# EAGLE library part 79109-34 (library untitled)
RECEPTACAL
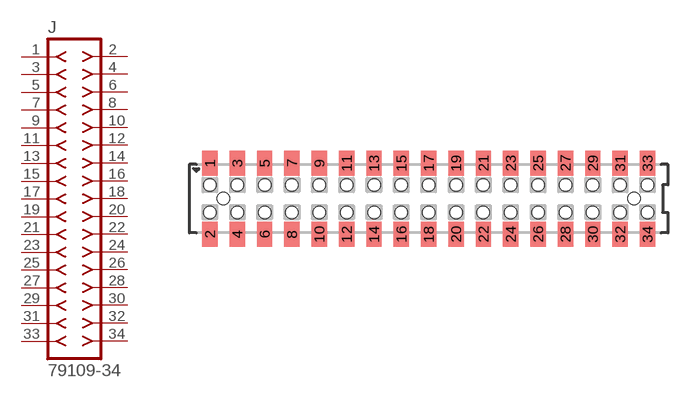
[diagram p174: symbol with the pads of 79109-34; footprint 79109-34]

Designator prefix J

## 79109-34  [79109-34]
1  1  pas
2  2  pas
3  3  pas
4  4  pas
5  5  pas
6  6  pas
7  7  pas
8  8  pas
9  9  pas
10  10  pas
11  11  pas
12  12  pas
13  13  pas
14  14  pas
15  15  pas
16  16  pas
17  17  pas
18  18  pas
19  19  pas
20  20  pas
21  21  pas
22  22  pas
23  23  pas
24  24  pas
25  25  pas
26  26  pas
27  27  pas
28  28  pas
29  29  pas
30  30  pas
31  31  pas
32  32  pas
33  33  pas
34  34  pas

## Footprint 79109-34 (pad centres in mm)
RECEPTACAL SMD Dual Row, Vertical, Pass-Thru
smd 1.12 x 1.83: 1 -16,2.6; 2 -16,-2.6; 3 -14,2.6; 4 -14,-2.6; 5 -12,2.6; 6 -12,-2.6; 7 -10,2.6; 8 -10,-2.6; 9 -8,2.6; 10 -8,-2.6; 11 -6,2.6; 12 -6,-2.6; 13 -4,2.6; 14 -4,-2.6; 15 -2,2.6; 16 -2,-2.6; 17 0,2.6; 18 0,-2.6; 19 2,2.6; 20 2,-2.6; 21 4,2.6; 22 4,-2.6; 23 6,2.6; 24 6,-2.6; 25 8,2.6; 26 8,-2.6; 27 10,2.6; 28 10,-2.6; 29 12,2.6; 30 12,-2.6; 31 14,2.6; 32 14,-2.6; 33 16,2.6; 34 16,-2.6
hole 0.914 at -15,0
hole 0.914 at -16,1
hole 0.914 at -16,-1
hole 0.914 at -14,-1
hole 0.914 at -14,1
hole 0.914 at -12,-1
hole 0.914 at -12,1
hole 0.914 at 15,0
hole 0.914 at -10,1
hole 0.914 at -10,-1
hole 0.914 at -8,1
hole 0.914 at -8,-1
hole 0.914 at -6,1
hole 0.914 at -6,-1
hole 0.914 at -4,1
hole 0.914 at -4,-1
hole 0.914 at -2,-1
hole 0.914 at -2,1
hole 0.914 at 0,1
hole 0.914 at 0,-1
hole 0.914 at 2,1
hole 0.914 at 2,-1
hole 0.914 at 4,1
hole 0.914 at 4,-1
hole 0.914 at 6,-1
hole 0.914 at 6,1
hole 0.914 at 8,1
hole 0.914 at 10,1
hole 0.914 at 12,1
hole 0.914 at 8,-1
hole 0.914 at 10,-1
hole 0.914 at 12,-1
hole 0.914 at 14,-1
hole 0.914 at 16,-1
hole 0.914 at 14,1
hole 0.914 at 16,1